# EAGLE library part 691322310020 (library Wurth_Elektronik_Electromechanic_Terminal_Blocks_Connectors_rev15c)
WR-TBL Serie 322 - 3.81mm Vertical PCB Header , 20 Pins=>Code : Con_TBL_Pluggable_3.81_PCB_THT_Simple_691322310020 <http://katalog.we-online.de/media/images/eican/Con_TBL_Pluggable_3.81_PCB_THT_Simple_6913223100xx_pf2.jpg> Details see: http://katalog.we-online.de/en/em/691_322_310_0xx Created 2014-06-19, Karrer Zheng 2014 (C) Würth Elektronik
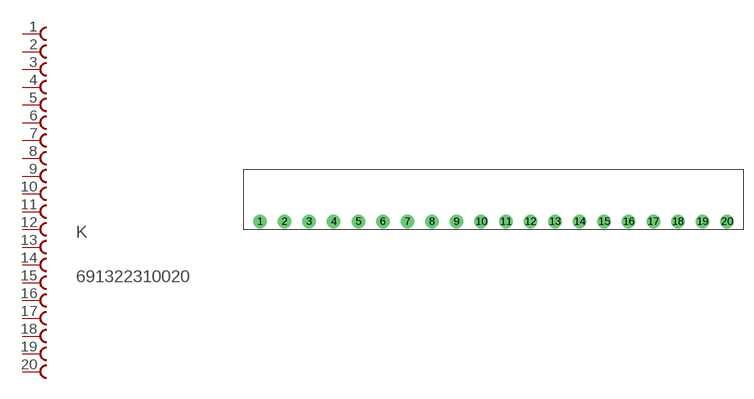
[diagram p52: symbol with the pads of 691322310020; footprint 691322310020]

Designator prefix K

## 691322310020  [691322310020]
1  1  pas
2  2  pas
3  3  pas
4  4  pas
5  5  pas
6  6  pas
7  7  pas
8  8  pas
9  9  pas
10  10  pas
11  11  pas
12  12  pas
13  13  pas
14  14  pas
15  15  pas
16  16  pas
17  17  pas
18  18  pas
19  19  pas
20  20  pas

## Footprint 691322310020 (pad centres in mm)
WR-TBL Serie 322 - 3.81mm Vertical PCB Header , 20 Pins
drill 1.4: 1 -34.29,0; 2 -30.48,0; 3 -26.67,0; 4 -22.86,0; 5 -19.05,0; 6 -15.24,0; 7 -11.43,0; 8 -7.62,0; 9 -3.81,0; 10 0,0; 11 3.81,0; 12 7.62,0; 13 11.43,0; 14 15.24,0; 15 19.05,0; 16 22.86,0; 17 26.67,0; 18 30.48,0; 19 34.29,0; 20 38.1,0